# EAGLE library part ATMEGA*U4 (library IC_Embedded)
8-bit Microcontroller Datasheet <https://ww1.microchip.com/downloads/en/DeviceDoc/Atmel-7766-8-bit-AVR-ATmega16U4-32U4_Datasheet.pdf> Note:For this part User needs to add thermal via in thermal pad in QFN package while designing a board.
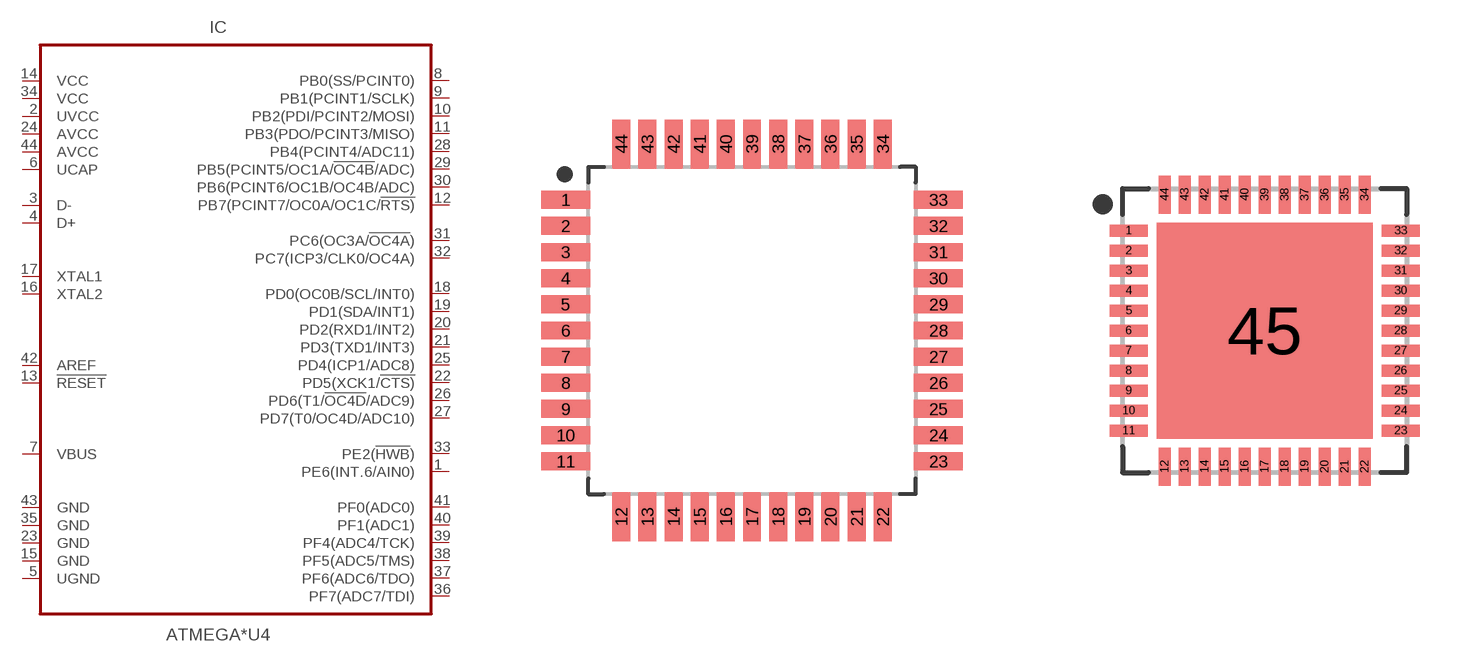
[diagram p15: symbol with the pads of QFP80P1200X1200X120-44; footprints QFP80P1200X1200X120-44, QFN50P700X700X100-45T540]

Designator prefix IC

## ATMEGA16U4-AU (CATEGORY: IC_Embedded; CORE: AVR; DESCRIPTION: IC MCU 8BIT 16KB FLASH 44TQFP; MANUFACTURER: Microchip Technology; MPN: ATmega16U4-AU; OPERATING_TEMP: -40°C to 85°C; PART_STATUS: Active; ROHS_COMPLIANT: COMPLIANT; SERIES: AVR® ATmega; SPEED: 16 MHz; SUB-CATEGORY: Microcontroller; TYPE: 8 bit Microcontroller; VALUE: ATMEGA16), ATMEGA32U4-AU (CATEGORY: IC_Embedded; CORE: AVR; DESCRIPTION: IC MCU 8BIT 32KB FLASH 44TQFP; MANUFACTURER: Microchip Technology; MPN: ATmega32U4-AU; OPERATING_TEMP: -40°C to 85°C; PART_STATUS: Active; ROHS_COMPLIANT: COMPLIANT; SERIES: AVR® ATmega; SPEED: 16 MHz; SUB-CATEGORY: Microcontroller; TYPE: 8 bit Microcontroller; VALUE: ATMEGA32)  [QFP80P1200X1200X120-44]
1  PE6(INT.6/AIN0)
2  UVCC  pwr
3  D-
4  D+
5  UGND  pwr
6  UCAP  pwr
7  VBUS  in
8  PB0(SS/PCINT0)
9  PB1(PCINT1/SCLK)
10  PB2(PDI/PCINT2/MOSI)
11  PB3(PDO/PCINT3/MISO)
12  PB7(PCINT7/OC0A/OC1C/!RTS)
13  !RESET  in
14  VCC  pwr
15  GND  pwr
16  XTAL2  out
17  XTAL1  in
18  PD0(OC0B/SCL/INT0)
19  PD1(SDA/INT1)
20  PD2(RXD1/INT2)
21  PD3(TXD1/INT3)
22  PD5(XCK1/!CTS)
23  GND  pwr
24  AVCC  pwr
25  PD4(ICP1/ADC8)
26  PD6(T1/!OC4D!/ADC9)
27  PD7(T0/OC4D/ADC10)
28  PB4(PCINT4/ADC11)
29  PB5(PCINT5/OC1A/!OC4B!/ADC)
30  PB6(PCINT6/OC1B/OC4B/ADC)
31  PC6(OC3A/!OC4A!)
32  PC7(ICP3/CLK0/OC4A)
33  PE2(!HWB!)
34  VCC  pwr
35  GND  pwr
36  PF7(ADC7/TDI)
37  PF6(ADC6/TDO)
38  PF5(ADC5/TMS)
39  PF4(ADC4/TCK)
40  PF1(ADC1)
41  PF0(ADC0)
42  AREF  in
43  GND  pwr
44  AVCC  pwr

## ATMEGA16U4-MU (CATEGORY: IC_Embedded; CORE: AVR; DESCRIPTION: IC MCU 8BIT 16KB FLASH 44VQFN; MANUFACTURER: Microchip Technology; MPN: ATmega16U4-MU; OPERATING_TEMP: -40°C to 85°C; PART_STATUS: Active; ROHS_COMPLIANT: COMPLIANT; SERIES: AVR® ATmega; SPEED: 16 MHz; SUB-CATEGORY: Microcontroller; TYPE: 8 bit Microcontroller; VALUE: ATMEGA16), ATMEGA32U4-MU (CATEGORY: IC_Embedded; CORE: AVR; DESCRIPTION: IC MCU 8BIT 32KB FLASH 44VQFN; MANUFACTURER: Microchip Technology; MPN: ATmega32U4-MU; OPERATING_TEMP: -40°C to 85°C; PART_STATUS: Active; ROHS_COMPLIANT: COMPLIANT; SERIES: AVR® ATmega; SPEED: 16 MHz; SUB-CATEGORY: Microcontroller; TYPE: 8 bit Microcontroller; VALUE: ATMEGA32)  [QFN50P700X700X100-45T540]
Pads as for QFP80P1200X1200X120-44

## Footprint QFP80P1200X1200X120-44 (pad centres in mm)
44-QFP, 0.80 mm pitch, 12.00 mm span, 10.00 X 10.00 X 1.20 mm body 44-pin QFP package with 0.80 mm pitch, 12.00 mm lead span1 X 12.00 mm lead span2 with body size 10.00 X 10.00 X 1.20 mm
smd 1.5 x 0.55: 1 -5.7,4; 2 -5.7,3.2; 3 -5.7,2.4; 4 -5.7,1.6; 5 -5.7,0.8; 6 -5.7,0; 7 -5.7,-0.8; 8 -5.7,-1.6; 9 -5.7,-2.4; 10 -5.7,-3.2; 11 -5.7,-4; 23 5.7,-4; 24 5.7,-3.2; 25 5.7,-2.4; 26 5.7,-1.6; 27 5.7,-0.8; 28 5.7,0; 29 5.7,0.8; 30 5.7,1.6; 31 5.7,2.4; 32 5.7,3.2; 33 5.7,4
smd 0.55 x 1.5: 12 -4,-5.7; 13 -3.2,-5.7; 14 -2.4,-5.7; 15 -1.6,-5.7; 16 -0.8,-5.7; 17 0,-5.7; 18 0.8,-5.7; 19 1.6,-5.7; 20 2.4,-5.7; 21 3.2,-5.7; 22 4,-5.7; 34 4,5.7; 35 3.2,5.7; 36 2.4,5.7; 37 1.6,5.7; 38 0.8,5.7; 39 0,5.7; 40 -0.8,5.7; 41 -1.6,5.7; 42 -2.4,5.7; 43 -3.2,5.7; 44 -4,5.7

## Footprint QFN50P700X700X100-45T540 (pad centres in mm)
44-QFN, 0.50 mm pitch, 7.00 X 7.00 X 1.00 mm body, 5.40 X 5.40 mm thermal pad 44-pin QFN package with 0.50 mm pitch with body size 7.00 X 7.00 X 1.00 mm and thermal pad size 5.40 X 5.40 mm
smd 0.95 x 0.3: 1 -3.4,2.5; 2 -3.4,2; 3 -3.4,1.5; 4 -3.4,1; 5 -3.4,0.5; 6 -3.4,0; 7 -3.4,-0.5; 8 -3.4,-1; 9 -3.4,-1.5; 10 -3.4,-2; 11 -3.4,-2.5; 23 3.4,-2.5; 24 3.4,-2; 25 3.4,-1.5; 26 3.4,-1; 27 3.4,-0.5; 28 3.4,0; 29 3.4,0.5; 30 3.4,1; 31 3.4,1.5; 32 3.4,2; 33 3.4,2.5
smd 0.3 x 0.95: 12 -2.5,-3.4; 13 -2,-3.4; 14 -1.5,-3.4; 15 -1,-3.4; 16 -0.5,-3.4; 17 0,-3.4; 18 0.5,-3.4; 19 1,-3.4; 20 1.5,-3.4; 21 2,-3.4; 22 2.5,-3.4; 34 2.5,3.4; 35 2,3.4; 36 1.5,3.4; 37 1,3.4; 38 0.5,3.4; 39 0,3.4; 40 -0.5,3.4; 41 -1,3.4; 42 -1.5,3.4; 43 -2,3.4; 44 -2.5,3.4
smd 5.4 x 5.4: 45 0,0